# Altium footprint library CONV_RAZ-2405S.PcbLib: 1 footprints
Each footprint in its own frame and in the unit in brackets; x right, y up, seen from the top. Pads: shape width x height; smd on the part's side, far side on the other; paste and mask are expansions set on the pad; w line width, h text height; cw(c..) or ccw(c..) is an arc to the next point about the centre after c.
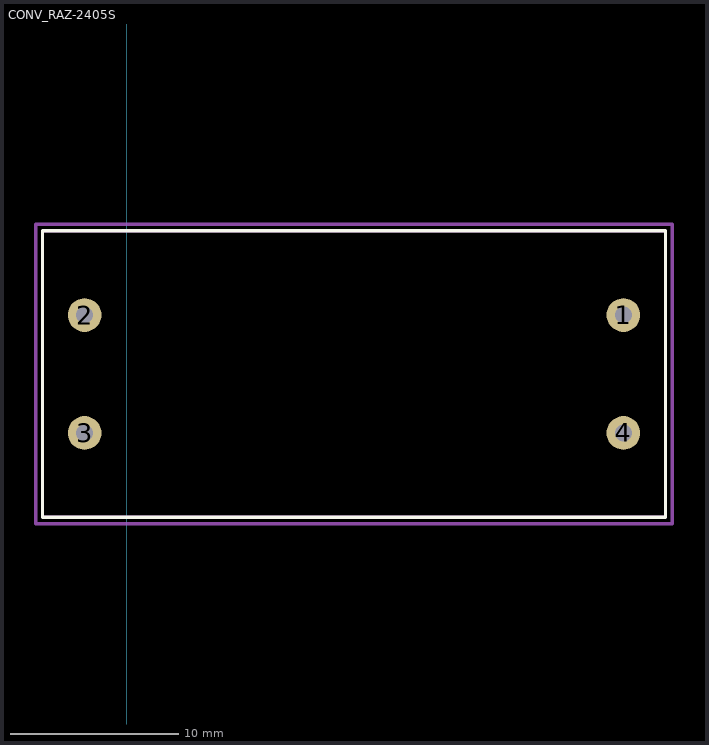
[diagram p0: the footprint, top view; thin cyan lines are the x and y axes]

## CONV_RAZ-2405S [mm]
pads (4):
  round 2 hole 1: 1(29.5,-21.6) 2(-2.5,-21.6) 3(-2.5,-28.6) 4(29.5,-28.6)
Top Overlay:
  lines w0.2: -5,-33.6 -5,-16.6 32,-16.6 32,-33.6 -5,-33.6
Mechanical 13:
  lines w0.2: -5,-33.6 -5,-16.6 32,-16.6 32,-33.6 -5,-33.6
Mechanical 15:
  lines w0.2: -5.4,-34 -5.4,-16.2 32.4,-16.2 32.4,-34 -5.4,-34